# EAGLE library part SN74LVC2T45 (library 74LV)
DUAL-BIT DUAL-SUPPLY BUS TRANSCEIVER With Configurable Voltage Translation and 3-State Outputs
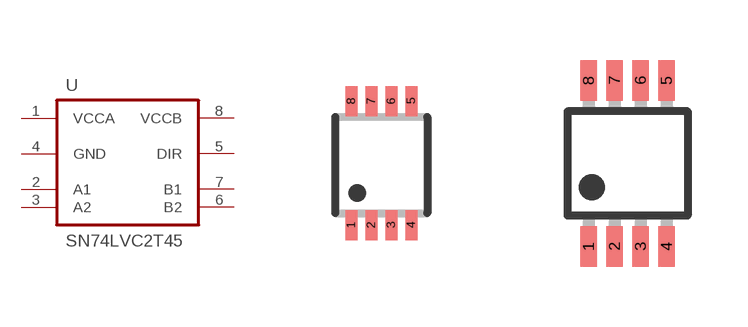
[diagram p15: symbol with the pads of US8-DCU; footprints US8-DCU, SM8-DCT]

Designator prefix U

## SN74LVC2T45DCU  [US8-DCU]
1  VCCA  pwr
2  A1
3  A2
4  GND  pwr
5  DIR  in
6  B2
7  B1
8  VCCB  pwr

## SN74LVC2T45SM8  [SM8-DCT]
Pads as for US8-DCU

## Footprint US8-DCU (pad centres in mm)
US8 - DCU 0.50 mm pitch
smd 0.3 x 0.75: 1 -0.75,-1.5; 2 -0.25,-1.5; 3 0.25,-1.5; 4 0.75,-1.5; 5 0.75,1.6; 6 0.25,1.6; 7 -0.25,1.6; 8 -0.75,1.6

## Footprint SM8-DCT (pad centres in mm)
SM8 - DCT 0.65 mm pitch
smd 0.406 x 1.016: 1 -0.975,-2.075; 2 -0.325,-2.075; 3 0.325,-2.075; 4 0.975,-2.075; 5 0.975,2.075; 6 0.325,2.075; 7 -0.325,2.075; 8 -0.975,2.075